# Altium schematic symbol library Switch.SchLib: 3 symbols
Pins are listed as number, name and electrical type; pins without a type are passive.

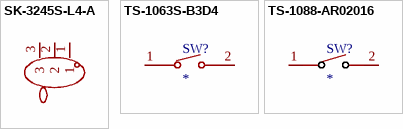
[diagram p0: symbols SK-3245S-L4-A to TS-1088-AR02016]

## SK-3245S-L4-A
designator SW??  (value not drawn)
Manufacturer: XKB Connection(中国星坤); Add into BOM: yes; Circuit: DPDT; Actuator Style: Rectangular column; Switch Height: 3.2mm; Actuator Color: Black; Current Rating: 50mA; Voltage Rating: 12V; Life: 10,000 times; Symbol: SK-3245S-L4-A; Device: SK-3245S-L4-A; LCSC Part Name: 柄长4mm 卧贴双档 滑动开关; Supplier Part: C500049; Manufacturer Part: SK-3245S-L4-A; Supplier Footprint: SMD; JLCPCB Part Class: Extended Part; Datasheet: https://atta.szlcsc.com/upload/public/pdf/source/20211011/150604CD043E0D261356905071EFEC5D.pdf; Supplier: LCSC; Convert to PCB: yes; Termination Style: SMDSplicing; Length: 9.1mm; Width: 3.55mm; Mounting Type: Horizontal attachment; Operating Temperature: -40℃~+85℃
footprint SW-SMD_SK-3245S-L4-A
pins: 1, 2, 3

## TS-1063S-B3D4
designator SW?
footprint KEY-SMD_L3.0-W2.5-LS4.0_TS-1603S
pins: 1, 2

## TS-1088-AR02016
designator SW?
footprint SW-SMD_L3.9-W3.0-P4.45
pins: 1, 2